# Altium footprint library VS6TQ045SM3.PcbLib: 1 footprints
Each footprint in its own frame and in the unit in brackets; x right, y up, seen from the top. Pads: shape width x height; smd on the part's side, far side on the other; paste and mask are expansions set on the pad; w line width, h text height; cw(c..) or ccw(c..) is an arc to the next point about the centre after c.
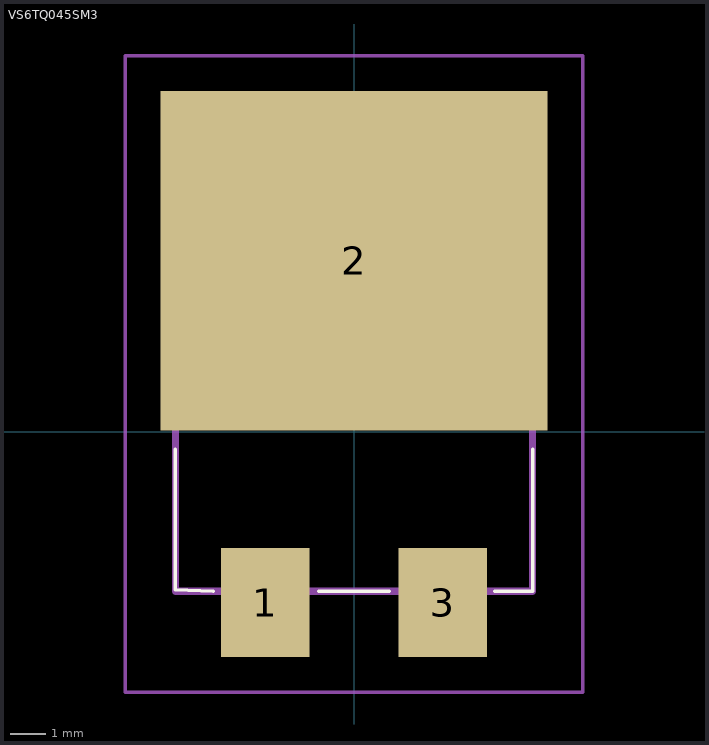
[diagram p0: the footprint, top view; thin cyan lines are the x and y axes]

## VS6TQ045SM3 [mm]
pads (3):
  rect 2.525x3.1 smd: 1(-2.525,-4.86) 3(2.525,-4.86)
  rect 11x9.65 smd: 2(0,4.86)
Top Overlay:
  lines w0.1: -5.08,-0.5 -5.08,-4.5 -4,-4.54 ; -1,-4.54 1,-4.54 ; 4,-4.54 5.08,-4.54 ; 5.08,-4.5 5.08,-0.5
Mechanical 15:
  lines w0.2: -5.08,-4.54 5.08,-4.54 5.08,4.54 -5.08,4.54 -5.08,-4.54
Mechanical 20:
  lines w0.1: -6.5,-7.41 6.5,-7.41 6.5,10.685 -6.5,10.685 -6.5,-7.41